# EAGLE library part LED_ARRAY_10-SEG (library heck)
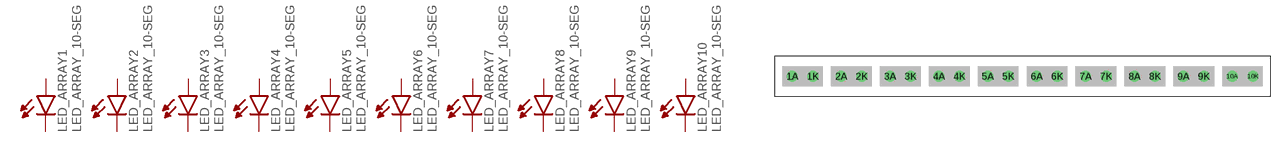
[diagram p14: symbol with the pads of LED_ARRAY_10_SEG_2.5X5_SIP; footprint LED_ARRAY_10_SEG_2.5X5_SIP]

Designator prefix LED_ARRAY; gates 1=LED 2=LED 3=LED 4=LED 5=LED 6=LED 7=LED 8=LED 9=LED 10=LED

## LED_ARRAY_10-SEG  [LED_ARRAY_10_SEG_2.5X5_SIP]
1A  1:A
1K  1:C
2A  2:A
2K  2:C
3A  3:A
3K  3:C
4A  4:A
4K  4:C
5A  5:A
5K  5:C
6A  6:A
6K  6:C
7A  7:A
7K  7:C
8A  8:A
8K  8:C
9A  9:A
9K  9:C
10A  10:A
10K  10:C

## Footprint LED_ARRAY_10_SEG_2.5X5_SIP (pad centres in mm)
drill 0.8: 1A -28.27,0; 1K -25.73,0; 2A -22.27,0; 2K -19.73,0; 3A -16.27,0; 3K -13.73,0; 4A -10.27,0; 4K -7.73,0; 5A -4.27,0; 5K -1.73,0; 6A 1.73,0; 6K 4.27,0; 7A 7.73,0; 7K 10.27,0; 8A 13.73,0; 8K 16.27,0; 9A 19.73,0; 9K 22.27,0; 10A 25.73,0; 10K 28.27,0